# Altium schematic symbol library WL-SMRW_1205.SchLib: 5 symbols
Pins are listed as number, name and electrical type; pins without a type are passive.

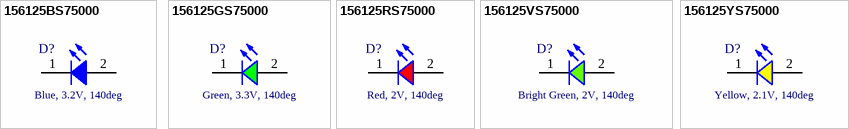
[diagram p0: symbols 156125BS75000 to 156125YS75000]

## 156125BS75000
designator D?, comment Blue, 3.2V, 140deg
WL-SMRW SMD Mono-color Reverse mount Waterclear, size 1205, Blue, 3.2V, 140deg; Part Number: 156125BS75000; Peak Wavelength typ.: 465nm; Dominant Wavelength typ.: 470nm; Luminous Intensity typ.: 120mcd; Chip Technology: InGaN; ComponentLink1Description: Manufacturer; ComponentLink1URL: http://www.we-online.de; ComponentLink2Description: Datasheet; ComponentLink2URL: https://katalog.we-online.de/led/datasheet/156125BS75000.pdf; Published Date: June 2019; Publisher: Wurth Elektronik; Size: 1205; Forward Voltage typ.: 3.2V; Viewing Angle typ.: 140deg; Operating Temperature: -40 to +85degC; Emitting Color: Blue; Mounting Technology: SMT; Packaging: Tape and Reel
footprint WL-SMRW_1205_normal use
footprint WL-SMRW_1205_reverse use
pins: 1 K, 2 A

## 156125GS75000
designator D?, comment Green, 3.3V, 140deg
WL-SMRW SMD Mono-color Reverse mount Waterclear, size 1205, Green, 3.3V, 140deg; Part Number: 156125GS75000; Peak Wavelength typ.: 520nm; Dominant Wavelength typ.: 525nm; Luminous Intensity typ.: 450mcd; Chip Technology: InGaN; ComponentLink1Description: Manufacturer; ComponentLink1URL: http://www.we-online.de; ComponentLink2Description: Datasheet; ComponentLink2URL: https://katalog.we-online.de/led/datasheet/156125GS75000.pdf; Published Date: June 2019; Publisher: Wurth Elektronik; Size: 1205; Forward Voltage typ.: 3.3V; Viewing Angle typ.: 140deg; Operating Temperature: -40 to +85degC; Emitting Color: Green; Mounting Technology: SMT; Packaging: Tape and Reel
footprint WL-SMRW_1205_normal use
footprint WL-SMRW_1205_reverse use
pins: 1 K, 2 A

## 156125RS75000
designator D?, comment Red, 2V, 140deg
WL-SMRW SMD Mono-color Reverse mount Waterclear, size 1205, Red, 2V, 140deg; Part Number: 156125RS75000; Peak Wavelength typ.: 632nm; Dominant Wavelength typ.: 624nm; Luminous Intensity typ.: 110mcd; Chip Technology: AlInGaP; ComponentLink1Description: Manufacturer; ComponentLink1URL: http://www.we-online.de; ComponentLink2Description: Datasheet; ComponentLink2URL: https://katalog.we-online.de/led/datasheet/156125RS75000.pdf; Published Date: June 2019; Publisher: Wurth Elektronik; Size: 1205; Forward Voltage typ.: 2V; Viewing Angle typ.: 140deg; Operating Temperature: -40 to +85degC; Emitting Color: Red; Mounting Technology: SMT; Packaging: Tape and Reel
footprint WL-SMRW_1205_normal use
footprint WL-SMRW_1205_reverse use
pins: 1 K, 2 A

## 156125VS75000
designator D?, comment Bright Green, 2V, 140deg
WL-SMRW SMD Mono-color Reverse mount Waterclear, size 1205, Bright Green, 2V, 140deg; Part Number: 156125VS75000; Peak Wavelength typ.: 575nm; Dominant Wavelength typ.: 573nm; Luminous Intensity typ.: 45mcd; Chip Technology: AlInGaP; ComponentLink1Description: Manufacturer; ComponentLink1URL: http://www.we-online.de; ComponentLink2Description: Datasheet; ComponentLink2URL: https://katalog.we-online.de/led/datasheet/156125VS75000.pdf; Published Date: June 2019; Publisher: Wurth Elektronik; Size: 1205; Forward Voltage typ.: 2V; Viewing Angle typ.: 140deg; Operating Temperature: -40 to +85degC; Emitting Color: Bright Green; Mounting Technology: SMT; Packaging: Tape and Reel
footprint WL-SMRW_1205_normal use
footprint WL-SMRW_1205_reverse use
pins: 1 K, 2 A

## 156125YS75000
designator D?, comment Yellow, 2.1V, 140deg
WL-SMRW SMD Mono-color Reverse mount Waterclear, size 1205, Yellow, 2.1V, 140deg; Part Number: 156125YS75000; Peak Wavelength typ.: 591nm; Dominant Wavelength typ.: 589nm; Luminous Intensity typ.: 70mcd; Chip Technology: AlInGaP; ComponentLink1Description: Manufacturer; ComponentLink1URL: http://www.we-online.de; ComponentLink2Description: Datasheet; ComponentLink2URL: https://katalog.we-online.de/led/datasheet/156125YS75000.pdf; Published Date: June 2019; Publisher: Wurth Elektronik; Size: 1205; Forward Voltage typ.: 2.1V; Viewing Angle typ.: 140deg; Operating Temperature: -40 to +85degC; Emitting Color: Yellow; Mounting Technology: SMT; Packaging: Tape and Reel
footprint WL-SMRW_1205_normal use
footprint WL-SMRW_1205_reverse use
pins: 1 K, 2 A